# EAGLE library part DG413(MAXIM_SWITCH) (library QuantumOptics)
DG413, switch, Maxim, 2 of NO & 2 of NC.
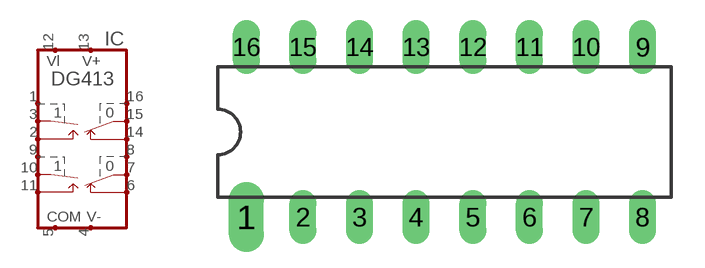
[diagram p36: symbol with the pads of DIL16; footprint DIL16]

Designator prefix IC

## DG413(MAXIM_SWITCH)CJ  [DIL16]
1  C1  in
2  A1
3  B1
4  V-  in
5  COM  in
6  A4
7  B4
8  C4  in
9  C3  in
10  B3
11  A3
12  VL  in
13  V+  in
14  A2
15  B2
16  C2  in

## Footprint DIL16 (pad centres in mm)
Dual In Line Package, 16 pin on standard 0.1" x 0.3" grid, 0.028" holes (less plating).
drill 0.711 pad 1.575 long: 1 -8.89,-3.81
drill 0.711 long: 2 -6.35,-3.81; 3 -3.81,-3.81; 4 -1.27,-3.81; 5 1.27,-3.81; 6 3.81,-3.81; 7 6.35,-3.81; 8 8.89,-3.81; 9 8.89,3.81; 10 6.35,3.81; 11 3.81,3.81; 12 1.27,3.81; 13 -1.27,3.81; 14 -3.81,3.81; 15 -6.35,3.81; 16 -8.89,3.81